# Altium schematic symbol library Pressure.SchLib: 5 symbols
Pins are listed as number, name and electrical type; pins without a type are passive.

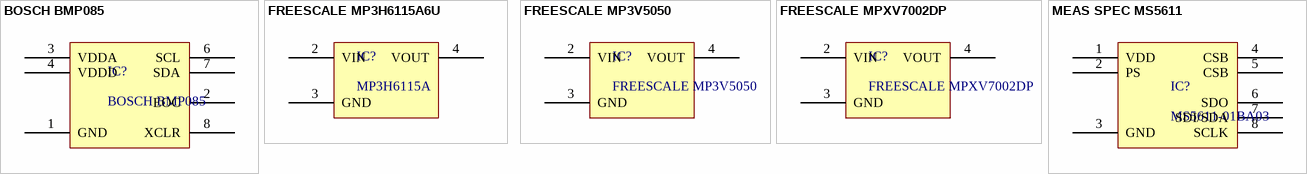
[diagram p0: symbols BOSCH BMP085 to MEAS SPEC MS5611]

## BOSCH BMP085
designator IC?
Bosch BMP085 Digital pressure sensor
pins: 1 GND "Desc1", 2 EOC "Desc1", 3 VDDA "Desc1", 4 VDDD "Desc1", 6 SCL "Desc1", 7 SDA "Desc1", 8 XCLR "Desc1"

## FREESCALE MP3H6115A6U
designator IC?, comment MP3H6115A
High Temperature Accuracy  Integrated Silicon Pressure Sensor  for Measuring Absolute Pressure,  On-Chip Signal Conditioned,  Temperature Compensated and  Calibrated
pins: 2 VIN, 3 GND, 4 VOUT

## FREESCALE MP3V5050
designator IC?
0 to 50 kPa, Differential,  and Gauge Pressure Sensor
pins: 2 VIN, 3 GND, 4 VOUT

## FREESCALE MPXV7002DP
designator IC?
High Temperature Accuracy  Integrated Silicon Pressure Sensor  for Measuring Absolute Pressure,  On-Chip Signal Conditioned,  Temperature Compensated and  Calibrated
pins: 2 VIN, 3 GND, 4 VOUT

## MEAS SPEC MS5611
designator IC?, comment MS5611-01BA03
pins: 1 VDD "Positive supply voltage", 2 PS "Protocol select - PS high I2C, PS low SPI", 3 GND "Ground", 4 CSB "Chip select", 5 CSB "Chip select", 6 SDO "Serial data output", 7 SDI/SDA "Serial Data input/I2C data IO", 8 SCLK "Serial Data Clock"